# Altium footprint library Diodes.PcbLib: 2 footprints
Each footprint in its own frame and in the unit in brackets; x right, y up, seen from the top. Pads: shape width x height; smd on the part's side, far side on the other; paste and mask are expansions set on the pad; w line width, h text height; cw(c..) or ccw(c..) is an arc to the next point about the centre after c.
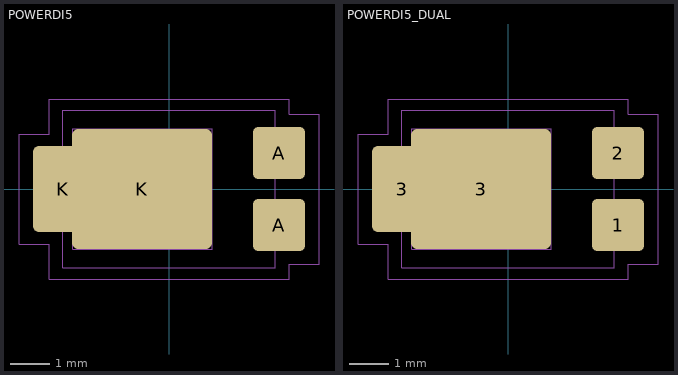
[diagram p0: the footprints below, top view; thin cyan lines are the x and y axes]

## POWERDI5 [mil]
pads (4):
  rrect20% 52x52 smd paste-5 mask+2: A(110,-36) A(110,36)
  rrect20% 60x86 smd paste-5 mask+2: K(-106,0)
  rrect10% 140x120 smd paste-200 mask+2: K(-27,0)
Top Paste:
  rectangle: 3.94,-15.75 35.43,15.75
  rectangle: 3.94,-55.12 35.43,-23.62
  rectangle: -35.43,-55.12 -3.94,-23.62
  rectangle: -74.8,-55.12 -43.31,-23.62
  rectangle: -35.43,-15.75 -3.94,15.75
  rectangle: -74.8,-15.75 -43.31,15.75
  rectangle: -74.8,23.62 -43.31,55.12
  rectangle: -35.43,23.62 -3.94,55.12
  rectangle: 3.94,23.62 35.43,55.12
Top Designator:
  text ".Designator" at -127.64,-12.5 h35
Top Courtyard:
  lines w1: -150,-55 -120,-55 -120,-90 120,-90 120,-75 150,-75 150,75 120,75 120,90 -120,90 -120,55 -150,55 -150,-55
Top Component Outline:
  lines w1: -127.95,-35.43 -96.46,-35.43 -96.46,-60.12 43.27,-60.12 43.27,60.12 -96.46,60.12 -96.46,35.43 -127.95,35.43 -127.95,18.7 -124.02,18.7 -124.02,-18.7 -127.95,-18.7 -127.95,-35.43 ; -106.3,-78.74 106.3,-78.74 106.3,78.74 -106.3,78.74 -106.3,-78.74 ; 92.68,-53.94 92.68,-18.5 127.95,-18.5 127.95,-53.94 92.68,-53.94 ; 92.68,18.5 127.95,18.5 127.95,53.94 92.68,53.94 92.68,18.5
3D body: height 14.96, standoff 0, extent 92.68,-53.94 127.95,-18.5
3D body: height 14.96, standoff 0, extent 92.68,18.5 127.95,53.94
3D body: height 14.96, standoff 0, extent -127.95,-60.12 43.27,60.12
3D body: height 43.31, standoff 0, extent -106.3,-78.74 106.3,78.74

## POWERDI5_DUAL [mil]
pads (4):
  rrect20% 52x52 smd paste-5 mask+2: 1(110,-36) 2(110,36)
  rrect20% 60x86 smd paste-5 mask+2: 3(-106,0)
  rrect10% 140x120 smd paste-200 mask+2: 3(-27,0)
Top Paste:
  rectangle: 3.94,23.62 35.43,55.12
  rectangle: -35.43,23.62 -3.94,55.12
  rectangle: -74.8,23.62 -43.31,55.12
  rectangle: -74.8,-15.75 -43.31,15.75
  rectangle: -35.43,-15.75 -3.94,15.75
  rectangle: -74.8,-55.12 -43.31,-23.62
  rectangle: -35.43,-55.12 -3.94,-23.62
  rectangle: 3.94,-55.12 35.43,-23.62
  rectangle: 3.94,-15.75 35.43,15.75
Top Designator:
  text ".Designator" at -127.64,-12.5 h35
Top Courtyard:
  lines w1: -150,-55 -120,-55 -120,-90 120,-90 120,-75 150,-75 150,75 120,75 120,90 -120,90 -120,55 -150,55 -150,-55
Top Component Outline:
  lines w1: -127.95,-35.43 -96.46,-35.43 -96.46,-60.12 43.27,-60.12 43.27,60.12 -96.46,60.12 -96.46,35.43 -127.95,35.43 -127.95,18.7 -124.02,18.7 -124.02,-18.7 -127.95,-18.7 -127.95,-35.43 ; -106.3,-78.74 106.3,-78.74 106.3,78.74 -106.3,78.74 -106.3,-78.74 ; 92.68,-53.94 92.68,-18.5 127.95,-18.5 127.95,-53.94 92.68,-53.94 ; 92.68,18.5 127.95,18.5 127.95,53.94 92.68,53.94 92.68,18.5
3D body: height 43.31, standoff 0, extent -106.3,-78.74 106.3,78.74
3D body: height 14.96, standoff 0, extent -127.95,-60.12 43.27,60.12
3D body: height 14.96, standoff 0, extent 92.68,18.5 127.95,53.94
3D body: height 14.96, standoff 0, extent 92.68,-53.94 127.95,-18.5